# Altium footprint library JLCPCB_RES_SMD.PcbLib: 4 footprints
Each footprint in its own frame and in the unit in brackets; x right, y up, seen from the top. Pads: shape width x height; smd on the part's side, far side on the other; paste and mask are expansions set on the pad; w line width, h text height; cw(c..) or ccw(c..) is an arc to the next point about the centre after c.
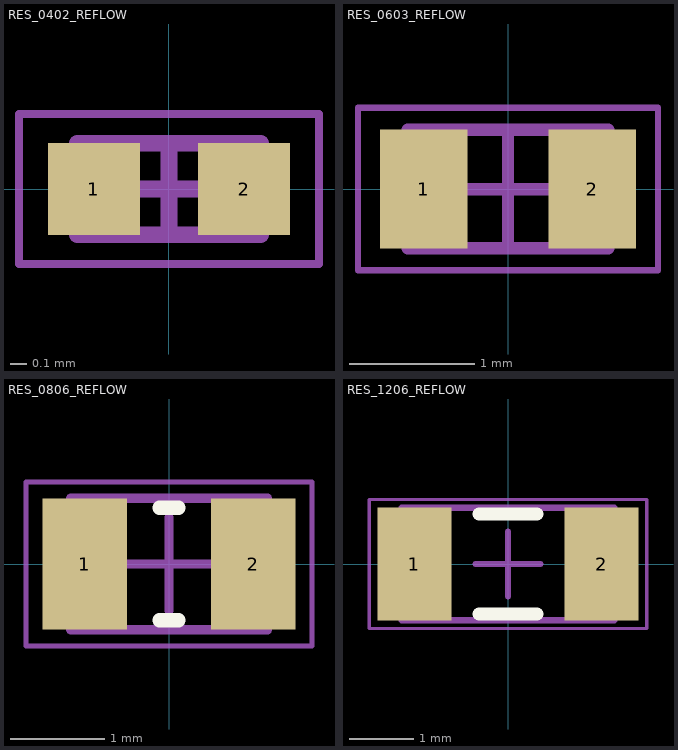
[diagram p0: the footprints below, top view; thin cyan lines are the x and y axes]

## RES_0402_REFLOW [mm] "Chip Resistor, 2-Leads, Body 1,00x0,50mm, IPC Medium Density"
height 0.4
pads (2):
  rect 0.55x0.55 smd mask+0.055: 1(-0.45,0) 2(0.45,0)
Mechanical 13:
  lines w0.1: -0.55,-0.275 -0.55,0.275 0.55,0.275 0.55,-0.275 -0.55,-0.275
Mechanical 15:
  lines w0.05: -0.9,-0.45 -0.9,0.45 0.9,0.45 0.9,-0.45 -0.9,-0.45
  lines w0.1: -0.275,0 0.275,0 ; 0,-0.275 0,0.275
3D body "RES_0402_REFLOW.step": height 0.4, standoff 0, extent -0.55,-0.275 0.55,0.275

## RES_0603_REFLOW [mm] "Chip Resistor, 2-Leads, Body 1,55x0,85mm, IPC Medium Density"
height 0.55
pads (2):
  rect 0.7x0.95 smd mask+0.055: 1(-0.675,0) 2(0.675,0)
Mechanical 13:
  lines w0.1: -0.8,-0.475 0.8,-0.475 0.8,0.475 -0.8,0.475 -0.8,-0.475
Mechanical 15:
  lines w0.05: -1.2,-0.65 1.2,-0.65 1.2,0.65 -1.2,0.65 -1.2,-0.65
  lines w0.1: -0.475,0 0.475,0 ; 0,-0.475 0,0.475
3D body "RES_0603_REFLOW.step": height 0.55, standoff 0, extent -0.8,-0.475 0.8,0.475

## RES_0806_REFLOW [mm] "Chip Resistor, 2-Leads, Body 2,00x1,25mm, IPC Medium Density"
height 0.55
pads (2):
  rect 0.9x1.4 smd mask+0.055: 1(-0.9,0) 2(0.9,0)
Top Overlay:
  lines w0.15: -0.1,-0.6 0.1,-0.6 ; -0.1,0.6 0.1,0.6
Mechanical 13:
  lines w0.1: -1.05,-0.7 -1.05,0.7 1.05,0.7 1.05,-0.7 -1.05,-0.7
Mechanical 15:
  lines w0.05: -1.525,-0.875 -1.525,0.875 1.525,0.875 1.525,-0.875 -1.525,-0.875
  lines w0.1: -0.5,0 0.5,0 ; 0,-0.5 0,0.5
3D body "RES_0806_REFLOW.step": height 0.55, standoff 0, extent -1.05,-0.7 1.05,0.7

## RES_1206_REFLOW [mm] "Chip Resistor, 2-Leads, Body 3,15x1,60mm, IPC Medium Density"
height 0.65
pads (2):
  rect 1.15x1.75 smd mask+0.055: 1(-1.45,0) 2(1.45,0)
Top Overlay:
  lines w0.2: -0.45,-0.775 0.45,-0.775 ; -0.45,0.775 0.45,0.775
Mechanical 13:
  lines w0.1: -1.65,-0.875 1.65,-0.875 1.65,0.875 -1.65,0.875 -1.65,-0.875
Mechanical 15:
  lines w0.05: -2.15,-1 2.15,-1 2.15,1 -2.15,1 -2.15,-1
  lines w0.1: -0.5,0 0.5,0 ; 0,-0.5 0,0.5
3D body "RES_1206_REFLOW.step": height 0.65, standoff 0, extent -1.65,-0.875 1.65,0.875